# Altium footprint library Footprint-Lib-ABahlmann-MISC.PcbLib: 69 footprints (part 2 of 5)
Each footprint in its own frame and in the unit in brackets; x right, y up, seen from the top. Pads: shape width x height; smd on the part's side, far side on the other; paste and mask are expansions set on the pad; w line width, h text height; cw(c..) or ccw(c..) is an arc to the next point about the centre after c.
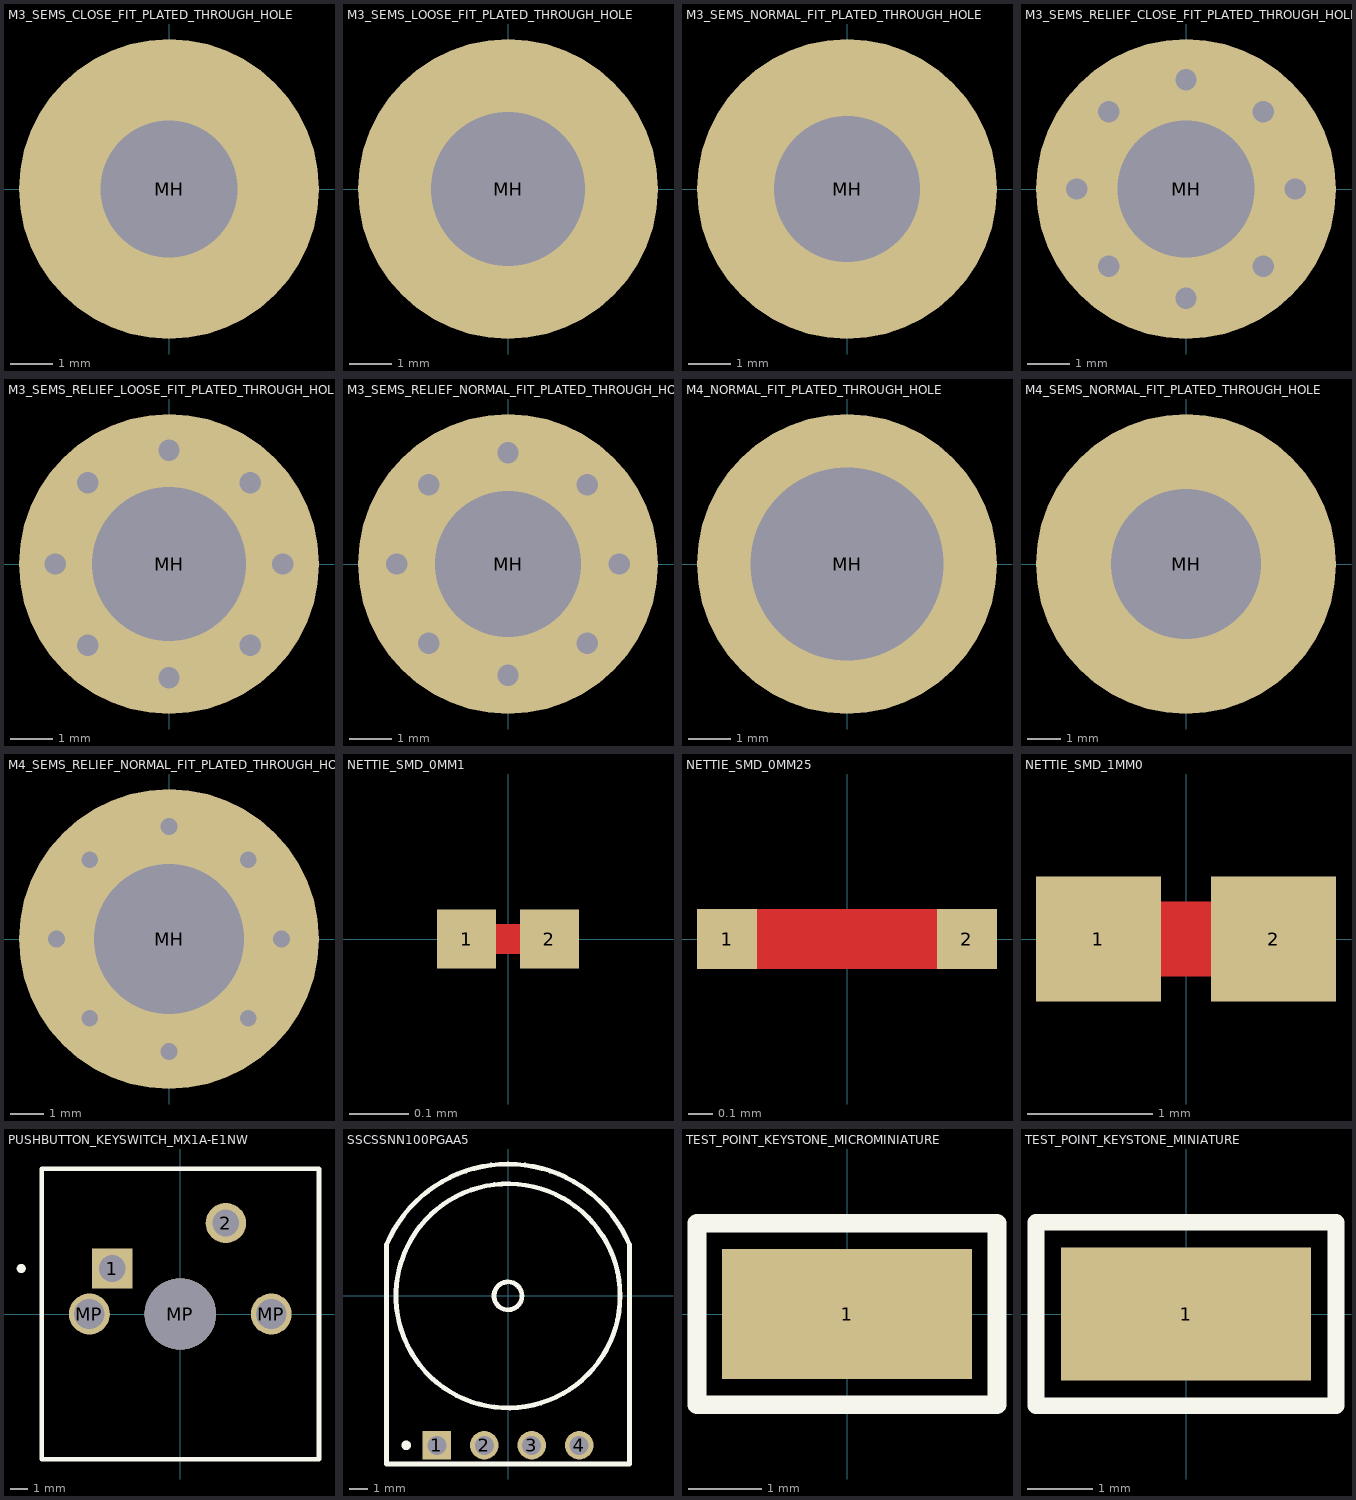
[diagram p1: the footprints below, top view; thin cyan lines are the x and y axes]

## M3_SEMS_CLOSE_FIT_PLATED_THROUGH_HOLE [mm]
pads (1):
  round 7 hole 3.2: MH(0,0)
3D body "MISUMI_M3x6mm_Hex-Socket-Drive-Screw-SEMS.stp": height 4.21, standoff -6.79, extent -3.5,-3.488 3.5,3.488

## M3_SEMS_LOOSE_FIT_PLATED_THROUGH_HOLE [mm]
pads (1):
  round 7 hole 3.6: MH(0,0)
3D body "MISUMI_M3x6mm_Hex-Socket-Drive-Screw-SEMS.stp": height 4.21, standoff -6.79, extent -3.5,-3.488 3.5,3.488

## M3_SEMS_NORMAL_FIT_PLATED_THROUGH_HOLE [mm]
pads (1):
  round 7 hole 3.4: MH(0,0)
3D body "MISUMI_M3x6mm_Hex-Socket-Drive-Screw-SEMS.stp": height 4.21, standoff -6.79, extent -3.5,-3.488 3.5,3.488

## M3_SEMS_RELIEF_CLOSE_FIT_PLATED_THROUGH_HOLE [mm]
pads (9):
  round 7 hole 3.2: MH(0,0)
  round 0.5 hole 0.5: ""(-2.55,0) ""(-1.8,-1.8) ""(-1.8,1.8) ""(0,-2.55) ""(0,2.55) ""(1.8,-1.8) ""(1.8,1.8) ""(2.55,0)
3D body "MISUMI_M3x6mm_Hex-Socket-Drive-Screw-SEMS.stp": height 4.21, standoff -6.79, extent -3.5,-3.488 3.5,3.488

## M3_SEMS_RELIEF_LOOSE_FIT_PLATED_THROUGH_HOLE [mm]
pads (9):
  round 7 hole 3.6: MH(0,0)
  round 0.5 hole 0.5: ""(-2.65,0) ""(-1.9,-1.9) ""(-1.9,1.9) ""(0,-2.65) ""(0,2.65) ""(1.9,-1.9) ""(1.9,1.9) ""(2.65,0)
3D body "MISUMI_M3x6mm_Hex-Socket-Drive-Screw-SEMS.stp": height 4.21, standoff -6.79, extent -3.5,-3.488 3.5,3.488

## M3_SEMS_RELIEF_NORMAL_FIT_PLATED_THROUGH_HOLE [mm]
pads (9):
  round 7 hole 3.4: MH(0,0)
  round 0.5 hole 0.5: ""(-2.6,0) ""(-1.85,-1.85) ""(-1.85,1.85) ""(0,-2.6) ""(0,2.6) ""(1.85,-1.85) ""(1.85,1.85) ""(2.6,0)
3D body "MISUMI_M3x6mm_Hex-Socket-Drive-Screw-SEMS.stp": height 4.21, standoff -6.79, extent -3.5,-3.488 3.5,3.488

## M4_NORMAL_FIT_PLATED_THROUGH_HOLE [mm]
pads (1):
  round 7 hole 4.5: MH(0,0)

## M4_SEMS_NORMAL_FIT_PLATED_THROUGH_HOLE [mm]
pads (1):
  round 9 hole 4.5: MH(0,0)
3D body "MISUMI_M4x12mm_Hex-Socket-Drive-Screw-SEMS.stp": height 5.81, standoff -10.19, extent -4.5,-4.497 4.488,4.497

## M4_SEMS_RELIEF_NORMAL_FIT_PLATED_THROUGH_HOLE [mm]
pads (9):
  round 9 hole 4.5: MH(0,0)
  round 0.5 hole 0.5: ""(-3.375,0) ""(-2.38,-2.38) ""(-2.38,2.38) ""(0,-3.375) ""(0,3.375) ""(2.38,2.38) ""(3.375,0)
  round 0.75 hole 0.5: ""(2.38,-2.38)
3D body "MISUMI_M4x12mm_Hex-Socket-Drive-Screw-SEMS.stp": height 5.81, standoff -10.19, extent -4.5,-4.497 4.488,4.497

## NETTIE_SMD_0MM1 [mm]
pads (2):
  rect 0.1x0.1 smd paste-2539.97 mask-1: 1(-0.07,0) 2(0.07,0)
Top Layer:
  rectangle: -0.05,-0.025 0.05,0.025

## NETTIE_SMD_0MM25 [mm]
pads (2):
  rect 0.25x0.25 smd paste-2539.97 mask-1: 1(-0.5,0) 2(0.5,0)
Top Layer:
  rectangle: -0.425,-0.125 0.425,0.125

## NETTIE_SMD_1MM0 [mm]
pads (2):
  rect 1x1 smd paste-2539.97 mask-1: 1(-0.7,0) 2(0.7,0)
Top Layer:
  rectangle: -0.5,-0.3 0.5,0.3

## PUSHBUTTON_KEYSWITCH_MX1A-E1NW [mil] "Pushbutton Switch SPST-NO Keyswitch Through Hole"
pads (5):
  rect 88.5x88.5 hole 59: 1(-150,100)
  round 88.5 hole 59: 2(100,200)
  round 90 hole 67: MP(-200,0) MP(200,0)
  round 157 hole 157 unplated: MP(0,0)
Top Overlay:
  circle w10: c-350,100 r5
  lines w10: -305,-320 305,-320 305,320 -305,320 -305,-320
3D body "MX1A-E1NW.STEP": height 585.54, standoff -144.46, extent -305,-318.78 305,318.78

## SSCSSNN100PGAA5 [mil]
pads (4):
  rect 60x60 hole 40: 1(-150,-314.96)
  round 60 hole 40: 2(-50,-314.96) 3(50,-314.96) 4(150,-314.96)
Top Overlay:
  circle w10: c0,0 r29.53
  circle w10: c0,0 r236.22
  circle w10: c-214.57,-314.96 r5
  lines w10: -255.91,-354.33 255.91,-354.33 255.91,108.27 ccw(c0,0) -255.91,108.27 -255.91,-354.33

## TEST_POINT_KEYSTONE_MICROMINIATURE [mil] "PC Test Point, Miniature Phosphor Bronze Silver Plating Surface Mount Mounting Type"
pads (1):
  rect 135x70 smd: 1(0,0)
Top Overlay:
  lines w10: -81,-49 -81,49 81,49 81,-49 -81,-49
3D body "5015.STEP": height 60.5, standoff 0.5, extent -52.48,-20 52.48,20

## TEST_POINT_KEYSTONE_MINIATURE [mil] "PC Test Point, Miniature Phosphor Bronze Silver Plating Surface Mount Mounting Type"
pads (1):
  rect 150x80 smd: 1(0,0)
Top Overlay:
  lines w10: -90,-55 -90,55 90,55 90,-55 -90,-55
3D body "5019.STEP": height 90.5, standoff 0.5, extent -75,-39.96 75,39.96